# Altium footprint library DC_motor_lib.PcbLib: 21 footprints (part 1 of 2)
Each footprint in its own frame and in the unit in brackets; x right, y up, seen from the top. Pads: shape width x height; smd on the part's side, far side on the other; paste and mask are expansions set on the pad; w line width, h text height; cw(c..) or ccw(c..) is an arc to the next point about the centre after c.
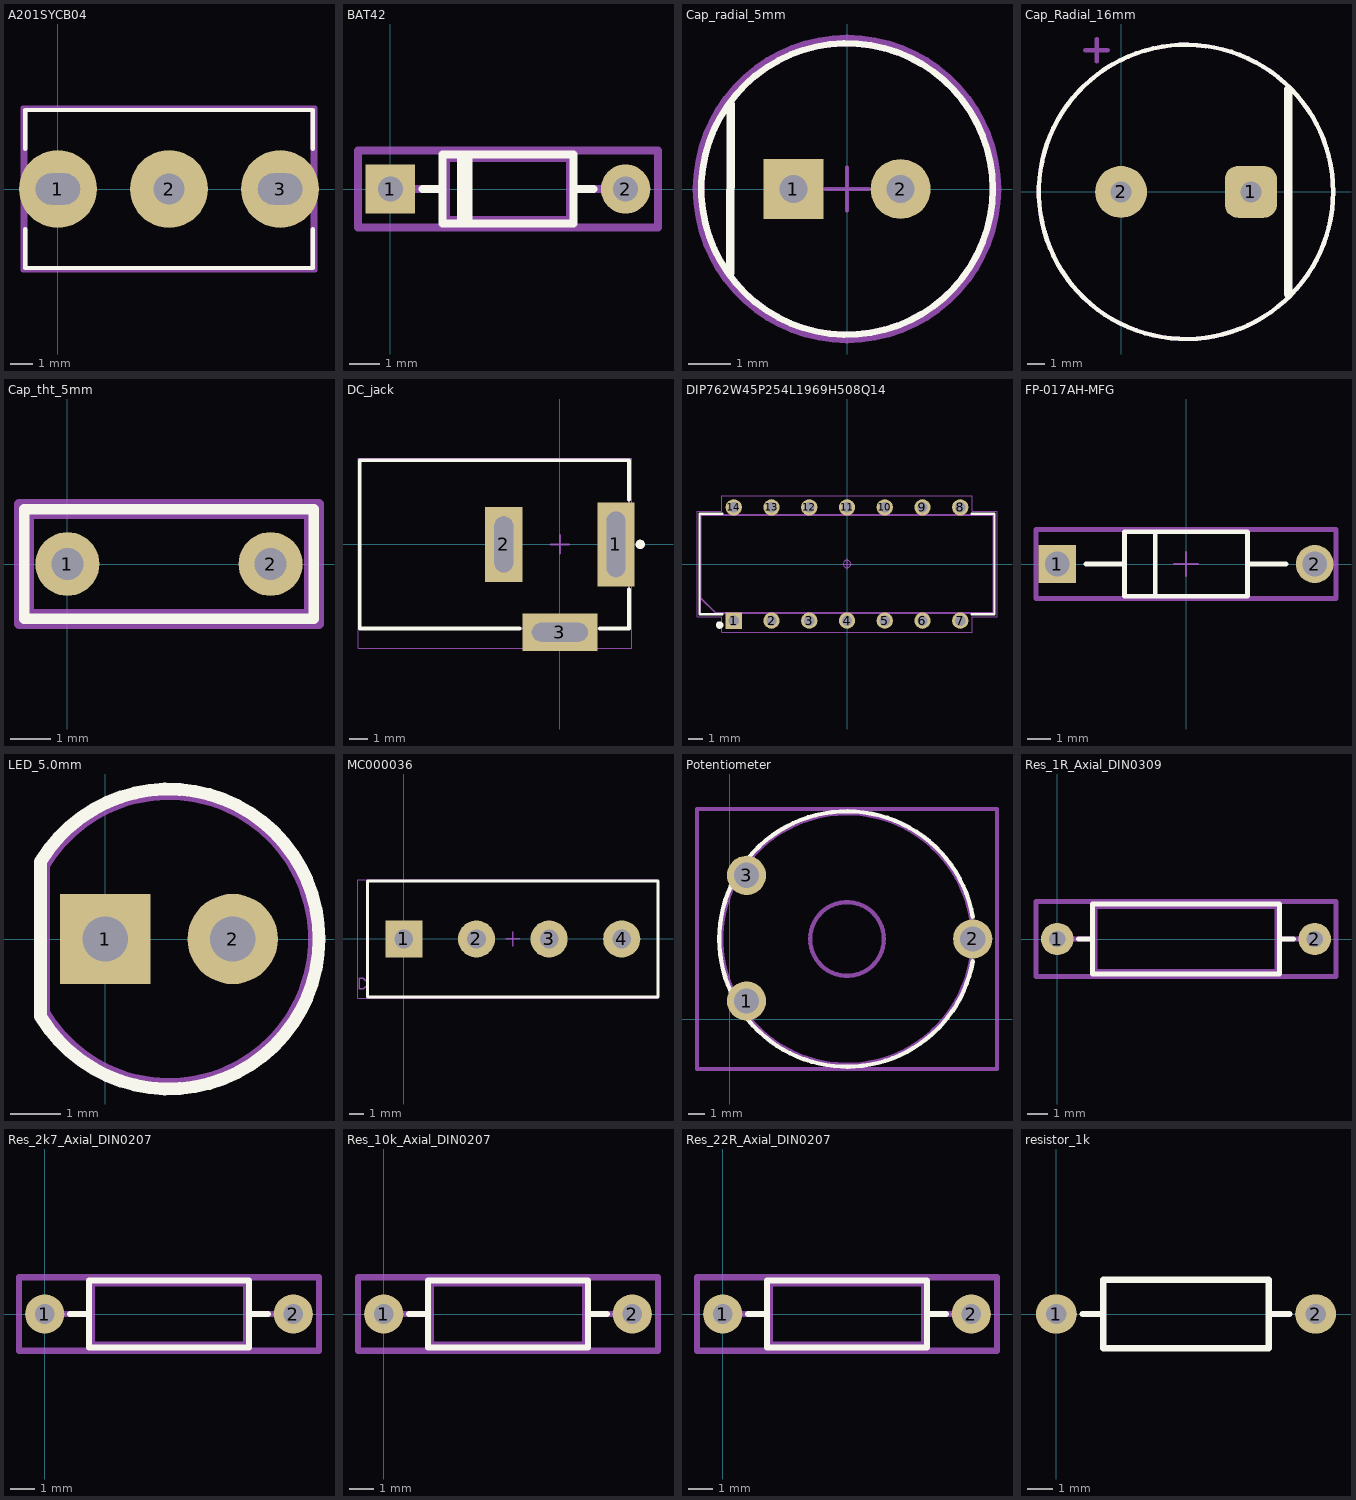
[diagram p0: the footprints below, top view; thin cyan lines are the x and y axes]

## A201SYCB04 [mm]
pads (3):
  round 3.5 hole 1.4 slot 2 at 0 deg paste-2539.97 mask+0: 1(0,0) 3(10,0)
  round 3.5 hole 1.4 paste-2539.97 mask+0: 2(5,0)
Top Overlay:
  lines w0.2: -1.477,-1.802 -1.477,-3.556 11.477,-3.556 11.477,-1.802 ; -1.477,1.802 -1.477,3.556 11.477,3.556 11.477,1.802
Top Assembly:
  lines w0.2: -1.577,-3.656 11.577,-3.656 11.577,3.656 -1.577,3.656 -1.577,-3.656
  text ".Designator" at -1.27,2.602 h1
Top 3D Body:
  lines w0.2: -1.477,-3.556 11.477,-3.556 11.477,3.556 -1.477,3.556 -1.477,-3.556
Top Courtyard:
  lines w0.2: -1.577,-3.656 11.577,-3.656 11.577,3.656 -1.577,3.656 -1.577,-3.656
Top Component Center:
  lines w0.1: 4.5,0 5.5,0 ; 5,-0.5 5,0.5
3D body "ToggleSwitch_MiniatureToggleSwitch.STEP": height 29.77, standoff -4.54, extent -1.397,-3.471 11.303,3.429

## BAT42 [mm]
pads (2):
  rect 1.6x1.6 hole 0.8 paste-2539.97 mask+0: 1(0,0)
  rrect100% 1.6x1.6 hole 0.8 paste-2539.97 mask+0: 2(7.62,0)
Top Overlay:
  lines w0.254: 1.04,0 1.69,0 ; 2.29,-1.12 2.29,1.12 ; 2.41,-1.12 2.41,1.12 ; 2.53,-1.12 2.53,1.12 ; 5.93,0 6.58,0 ; 1.69,-1.12 5.93,-1.12 5.93,1.12 1.69,1.12 1.69,-1.12
Mechanical 10:
  lines w0.254: 0,0 1.81,0 ; 2.31,-1 2.31,1 ; 2.41,-1 2.41,1 ; 2.51,-1 2.51,1 ; 5.81,0 7.62,0 ; 1.81,-1 5.81,-1 5.81,1 1.81,1 1.81,-1
Mechanical 12:
  lines w0.254: -1.05,-1.25 8.67,-1.25 8.67,1.25 -1.05,1.25 -1.05,-1.25
3D body "DO-35_STM.step": height 2.11, standoff -1.69, extent -0.279,-0.999 7.899,0.999

## Cap_radial_5mm [mm]
pads (2):
  rect 1.4x1.4 hole 0.65 paste-2539.97 mask+0: 1(-1.25,0)
  round 1.4 hole 0.65 paste-2539.97 mask+0: 2(1.25,0)
Top Overlay:
  circle w0.15: c0,0 r3.4
  lines w0.2: -2.72,-1.96 -2.716,1.973
Top 3D Body:
  circle w0.15: c0,0 r3.4
Top Courtyard:
  lines w0.2: -3.5,0 cw(c0,0) 3.5,0 cw(c0,0) -3.5,0
Top Component Center:
  lines w0.1: -0.5,0 0.5,0 ; 0,-0.5 0,0.5
3D body "Cap_Panasonic_ECEA1CKS330_eec.STEP": height 0.25, standoff 0, extent -3.5,-3.5 3.5,3.5

## Cap_Radial_16mm [mm]
pads (2):
  rrect50% 3x3 hole 1.2 paste-2539.97 mask+0: 1(7.5,0)
  round 3 hole 1.2 paste-2539.97 mask+0: 2(0,0)
Top Overlay:
  circle w0.254: c3.75,0 r8.5
  lines w0.5: 9.652,-5.915 9.652,5.921
Mechanical 10:
  circle w0.254: c3.75,0 r8.5
  lines w0.254: -2.066,8.182 -0.766,8.182 ; -1.416,7.531 -1.416,8.832
Mechanical 12:
  circle w0.254: c3.75,0 r8.5
3D body "B41858C7158M000.STEP": height 35.86, standoff -3.39, extent -4.262,-8.095 11.938,8.095

## Cap_tht_5mm [mm]
pads (2):
  round 1.6 hole 0.8 paste-2539.97 mask+0: 1(0,0) 2(5.08,0)
Top Overlay:
  lines w0.254: -1.08,-1.37 -1.08,1.37 6.16,1.37 6.16,-1.37 -1.08,-1.37
Mechanical 10:
  lines w0.254: -0.96,-1.25 -0.96,1.25 6.04,1.25 6.04,-1.25 -0.96,-1.25
Mechanical 12:
  lines w0.254: -1.21,-1.5 -1.21,1.5 6.29,1.5 6.29,-1.5 -1.21,-1.5
3D body "disccap.STEP": height 7.5, standoff -2.5, extent -0.548,-1.315 5.629,1.31

## DC_jack [mm]
pads (3):
  rect 2x4.5 hole 1 slot 3.5 at 90 deg: 1(3,0)
  rect 2x4 hole 1 slot 3 at 90 deg: 2(-3,0)
  rect 4x2 hole 1 slot 3 at 0 deg: 3(0,-4.7)
Top Overlay:
  circle w0.25: c4.3,0 r0.125
  lines w0.2: -2.15,-4.5 -10.7,-4.5 -10.7,4.5 3.7,4.5 3.7,2.4 ; 2.15,-4.5 3.7,-4.5 3.7,-2.4
Top 3D Body:
  lines w0.1: -10.7,-4.5 3.7,-4.5 3.7,4.5 -10.7,4.5 -10.7,-4.5
Top Courtyard:
  lines w0.05: -10.8,-5.55 -10.8,4.6 3.85,4.6 3.85,-5.55 -10.8,-5.55
  lines w0.1: -0.5,0 0.5,0 ; 0,-0.5 0,0.5
3D body "pj-002a.stp": height 11, standoff -3.5, extent -10.7,-4.9 3.7,4.5

## DIP762W45P254L1969H508Q14 [mm] "DIP, 7.62 mm lead span, 2.54 mm pitch; 14 pin, 19.69 mm L X 6.60 mm W X 5.08 mm H body"
height 5.08
pads (14):
  rect 1.1x1.1 / inner round 1.1 / far side rect 1.1x1.1 hole 0.7 paste-2539.97: 1(-7.62,-3.81)
  round 1.1 hole 0.7 paste-2539.97: 2(-5.08,-3.81) 3(-2.54,-3.81) 4(0,-3.81) 5(2.54,-3.81) 6(5.08,-3.81) 7(7.62,-3.81) 8(7.62,3.81) 9(5.08,3.81) 10(2.54,3.81) 11(0,3.81) 12(-2.54,3.81) 13(-5.08,3.81) 14(-7.62,3.81)
Top Overlay:
  circle w0.25: c-8.57,-4.11 r0.125
  lines w0.15: -8.395,-3.375 -9.92,-3.375 -9.92,3.375 -8.395,3.375 ; 8.395,-3.375 9.92,-3.375 9.92,3.375 8.395,3.375
Mechanical 3:
  lines w0.12: -9.845,-2.3 -9.845,3.3 9.845,3.3 9.845,-3.3 -8.845,-3.3 -9.845,-2.3
  text ".Designator" at -4.506,-0.452 h2
Top Assembly:
  lines w0.025: -9.845,-3.3 9.845,-3.3 9.845,3.3 -9.845,3.3 -9.845,-3.3 ; -7.885,-3.91 -7.885,-3.71 -7.355,-3.71 -7.355,-3.91 -7.885,-3.91 ; -7.885,3.71 -7.885,3.91 -7.355,3.91 -7.355,3.71 -7.885,3.71 ; -5.345,-3.91 -5.345,-3.71 -4.815,-3.71 -4.815,-3.91 -5.345,-3.91 ; -5.345,3.71 -5.345,3.91 -4.815,3.91 -4.815,3.71 -5.345,3.71 ; -2.805,-3.91 -2.805,-3.71 -2.275,-3.71 -2.275,-3.91 -2.805,-3.91 ; -2.805,3.71 -2.805,3.91 -2.275,3.91 -2.275,3.71 -2.805,3.71 ; -0.265,-3.91 -0.265,-3.71 0.265,-3.71 0.265,-3.91 -0.265,-3.91 ; -0.265,3.71 -0.265,3.91 0.265,3.91 0.265,3.71 -0.265,3.71 ; 2.275,-3.91 2.275,-3.71 2.805,-3.71 2.805,-3.91 2.275,-3.91 ; 2.275,3.71 2.275,3.91 2.805,3.91 2.805,3.71 2.275,3.71 ; 4.815,-3.91 4.815,-3.71 5.345,-3.71 5.345,-3.91 4.815,-3.91 ; 4.815,3.71 4.815,3.91 5.345,3.91 5.345,3.71 4.815,3.71 ; 7.355,-3.91 7.355,-3.71 7.885,-3.71 7.885,-3.91 7.355,-3.91 ; 7.355,3.71 7.355,3.91 7.885,3.91 7.885,3.71 7.355,3.71
Mechanical 7:
  lines w0.05: -10.095,-3.55 -8.42,-3.55 -8.42,-4.61 8.42,-4.61 8.42,-3.55 10.095,-3.55 10.095,3.55 8.42,3.55 8.42,4.61 -8.42,4.61 -8.42,3.55 -10.095,3.55 -10.095,-3.55
Mechanical 9:
  text ".Designator" at -2.702,-0.271 h1.2
Mechanical 17:
  circle w0.05: c0,0 r0.25
  lines w0.05: -0.35,0 0.35,0 ; 0,-0.35 0,0.35
3D body "DIP762W45P254L1969H508Q14.STEP": height 5.08, standoff -2, extent -9.838,-3.849 9.852,3.921
3D body: height 0.25, standoff 0, extent 0,0 0.254,0.254

## FP-017AH-MFG [mm]
pads (2):
  rect 1.6x1.6 hole 1.05 paste-2539.97 mask+0: 1(-5.438,0)
  round 1.6 hole 1.05 paste-2539.97 mask+0: 2(5.438,0)
Top Overlay:
  lines w0.2: -4.238,0 -2.6,0 ; -1.3,-1.29 -1.3,1.29 ; 2.6,0 4.238,0 ; -2.6,-1.36 -2.6,1.36 2.6,1.36 2.6,-1.36 -2.6,-1.36
Top Assembly:
  lines w0.2: -6.338,-1.46 -6.338,1.46 6.338,1.46 6.338,-1.46 -6.338,-1.46
  text ".Designator" at 0,0.189 h1
Top 3D Body:
  lines w0.2: -2.6,-1.36 -2.6,1.36 2.6,1.36 2.6,-1.36 -2.6,-1.36
Top Courtyard:
  lines w0.2: -6.338,-1.46 -6.338,1.46 6.338,1.46 6.338,-1.46 -6.338,-1.46
Top Component Center:
  lines w0.1: -0.5,0 0.5,0 ; 0,-0.5 0,0.5
3D body "Diode_onsemi_BZX85C3V9TR_eec.STEP": height 0.25, standoff 0, extent -6.338,-1.46 6.338,1.46

## LED_5.0mm [mm]
pads (2):
  rect 1.8x1.8 hole 0.9 paste-2539.97 mask+0: 1(0,0)
  round 1.8 hole 0.9 paste-2539.97 mask+0: 2(2.54,0)
Top Overlay:
  lines w0.254: -1.29,-1.545 -1.29,1.545 ; -1.29,-1.545 ccw(c1.27,0) 4.26,0 ccw(c1.27,0) -1.29,1.545
Mechanical 10:
  lines w0.254: -1.23,-1.47 ccw(c1.27,0) -1.23,1.47 -1.23,-1.47
3D body "Red Detailed 5mm LED.step": height 1.8, standoff -10.4, extent -1.23,-2.945 4.208,2.945

## MC000036 [mm]
pads (4):
  rect 2.6x2.6 hole 1.3 paste-2539.97 mask+0: 1(0,0)
  round 2.6 hole 1.3 paste-2539.97 mask+0: 2(5.08,0) 3(10.16,0) 4(15.24,0)
Top Overlay:
  lines w0.2: -2.54,-4.05 -2.54,4.05 17.78,4.05 17.78,-4.05 -2.54,-4.05
Top 3D Body:
  lines w0.1: -2.54,-3.327 -2.669,-3.327 -2.847,-3.477 -3.11,-3.477 -3.11,-2.763 ; -2.54,-2.913 -2.669,-2.913 -2.847,-2.763 -3.11,-2.763 ; -3.11,-2.763 -3.11,-2.763 ; -2.54,-4.05 17.78,-4.05 17.78,4.05 -2.54,4.05 -2.54,-4.05
Top Courtyard:
  lines w0.05: -3.21,-4.15 -3.21,4.15 17.78,4.15 17.78,-4.15 -3.21,-4.15
  lines w0.1: 7.12,0 8.12,0 ; 7.62,-0.5 7.62,0.5
3D body "DG129-5.08-04P-14-00AH.STEP": height 19.51, standoff -3.49, extent -3.163,-4.924 17.757,5.576

## Potentiometer [mm]
pads (3):
  round 2.34 hole 1.5 paste-2539.97 mask+0: 1(1,1.1) 2(14.49,4.8) 3(1,8.6)
Top Overlay:
  lines w0.254: 0.262,1.224 cw(c6.99,4.8) 0.263,8.378 ; 0.391,0.991 ccw(c6.989,4.8) 0.528,0.763 ; 0.392,8.61 cw(c6.986,4.802) 0.529,8.838 ; 0.825,0.322 ccw(c6.99,4.8) 7.122,-2.819 ; 0.826,9.28 cw(c6.99,4.8) 14.495,6.122 ; 6.99,-2.82 ccw(c6.99,4.8) 14.494,3.477
Mechanical 10:
  circle w0.254: c6.99,4.8 r7.5
  circle w0.254: c6.99,4.8 r2.2
Mechanical 12:
  lines w0.254: -1.96,-2.95 15.94,-2.95 15.94,12.55 -1.96,12.55 -1.96,-2.95
3D body "User Library-Trimpot Horizontal.STEP": height 8.83, standoff -4.89, extent 0.537,-2.2 14.817,11.8

## Res_1R_Axial_DIN0309 [mm]
pads (2):
  round 1.6 hole 0.8 paste-2539.97 mask+0: 1(0,0)
  rrect100% 1.6x1.6 hole 0.8 paste-2539.97 mask+0: 2(12.7,0)
Top Overlay:
  lines w0.254: 1.04,0 1.73,0 ; 10.97,0 11.66,0 ; 1.73,-1.72 1.73,1.72 10.97,1.72 10.97,-1.72 1.73,-1.72
Mechanical 10:
  lines w0.254: 0,0 1.85,0 ; 10.85,0 12.7,0 ; 1.85,-1.6 1.85,1.6 10.85,1.6 10.85,-1.6 1.85,-1.6
Mechanical 12:
  lines w0.254: -1.05,-1.85 -1.05,1.85 13.75,1.85 13.75,-1.85 -1.05,-1.85
3D body "R_0,5W__D2,5__L6,8__Pitch-12,5__Spacing-0_begie.STEP": height 2.65, standoff -1.45, extent -0.2,-1.27 12.9,1.23

## Res_2k7_Axial_DIN0207 [mm]
pads (2):
  round 1.6 hole 0.8 paste-2539.97 mask+0: 1(0,0)
  rrect100% 1.6x1.6 hole 0.8 paste-2539.97 mask+0: 2(10.16,0)
Top Overlay:
  lines w0.254: 1.04,0 1.81,0 ; 8.35,0 9.12,0 ; 1.81,-1.37 1.81,1.37 8.35,1.37 8.35,-1.37 1.81,-1.37
Mechanical 10:
  lines w0.254: 0,0 1.93,0 ; 8.23,0 10.16,0 ; 1.93,-1.25 1.93,1.25 8.23,1.25 8.23,-1.25 1.93,-1.25
Mechanical 12:
  lines w0.254: -1.05,-1.5 -1.05,1.5 11.21,1.5 11.21,-1.5 -1.05,-1.5
3D body "2k7R 0.4.STEP": height 2.93, standoff -2.54, extent -0.305,-1.156 10.465,1.156

## Res_10k_Axial_DIN0207 [mm]
pads (2):
  round 1.6 hole 0.8 paste-2539.97 mask+0: 1(0,0)
  rrect100% 1.6x1.6 hole 0.8 paste-2539.97 mask+0: 2(10.16,0)
Top Overlay:
  lines w0.254: 1.04,0 1.81,0 ; 8.35,0 9.12,0 ; 1.81,-1.37 1.81,1.37 8.35,1.37 8.35,-1.37 1.81,-1.37
Mechanical 10:
  lines w0.254: 0,0 1.93,0 ; 8.23,0 10.16,0 ; 1.93,-1.25 1.93,1.25 8.23,1.25 8.23,-1.25 1.93,-1.25
Mechanical 12:
  lines w0.254: -1.05,-1.5 -1.05,1.5 11.21,1.5 11.21,-1.5 -1.05,-1.5
3D body "10kR 0.4.STEP": height 2.93, standoff -2.54, extent -0.305,-1.156 10.465,1.156

## Res_22R_Axial_DIN0207 [mm]
pads (2):
  round 1.6 hole 0.8 paste-2539.97 mask+0: 1(0,0)
  rrect100% 1.6x1.6 hole 0.8 paste-2539.97 mask+0: 2(10.16,0)
Top Overlay:
  lines w0.254: 1.04,0 1.81,0 ; 8.35,0 9.12,0 ; 1.81,-1.37 1.81,1.37 8.35,1.37 8.35,-1.37 1.81,-1.37
Mechanical 10:
  lines w0.254: 0,0 1.93,0 ; 8.23,0 10.16,0 ; 1.93,-1.25 1.93,1.25 8.23,1.25 8.23,-1.25 1.93,-1.25
Mechanical 12:
  lines w0.254: -1.05,-1.5 -1.05,1.5 11.21,1.5 11.21,-1.5 -1.05,-1.5
3D body "220R 0.4.STEP": height 2.93, standoff -2.54, extent -0.305,-1.156 10.465,1.156

## resistor_1k [mm]
pads (2):
  oval 1.6x1.524 hole 0.8: 1(0,0) 2(10.16,0)
Top Overlay:
  lines w0.254: 1.03,0 1.83,0 ; 8.33,0 9.13,0 ; 1.83,-1.35 8.33,-1.35 8.33,1.35 1.83,1.35 1.83,-1.35
3D body "1k_resistor_model.STEP": height 3.73, standoff -1.74, extent -0.305,-1.156 10.465,1.156